# Altium footprint library SelfDrivingCar_PCB.PcbLib: 33 footprints (part 3 of 3)
Each footprint in its own frame and in the unit in brackets; x right, y up, seen from the top. Pads: shape width x height; smd on the part's side, far side on the other; paste and mask are expansions set on the pad; w line width, h text height; cw(c..) or ccw(c..) is an arc to the next point about the centre after c.
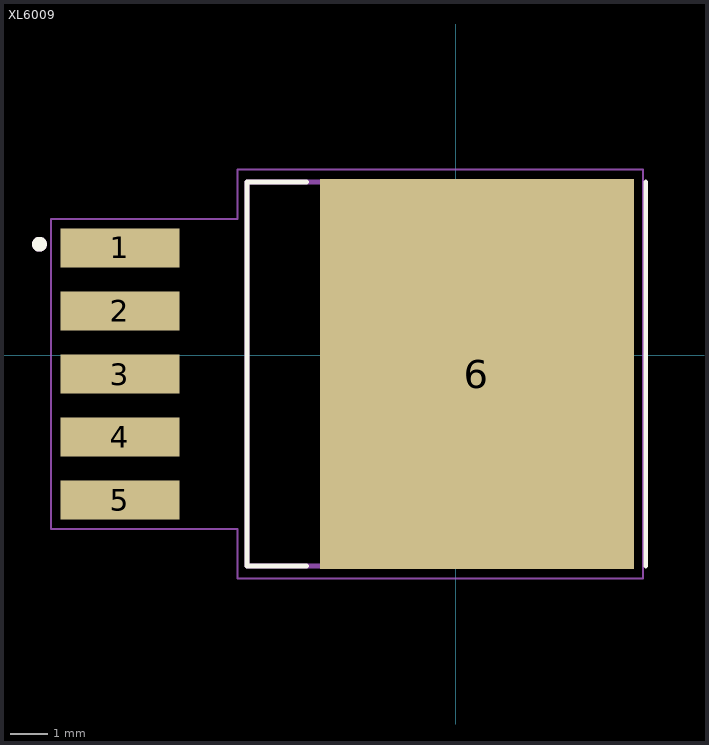
[diagram p2: the footprint, top view; thin cyan lines are the x and y axes]

## XL6009 [mm]
pads (6):
  rect 3.21x1.05 smd: 1(-9.051,2.892) 2(-9.051,1.192) 3(-9.051,-0.508) 4(-9.051,-2.208) 5(-9.051,-3.908)
  rect 8.46x10.53 smd paste-6: 6(0.579,-0.508)
Top Overlay:
  circle w0.2: c-11.221,2.992 r0.1
  lines w0.127: -4.021,-5.688 -5.626,-5.688 -5.626,4.672 -4.021,4.672 ; 5.129,-5.688 5.129,4.672
Top Paste:
  region: 2.269,-1.218 1.009,-1.218 1.009,0.202 2.269,0.202
  region: 4.389,-1.218 3.129,-1.218 3.129,0.202 4.389,0.202
  region: 0.149,-1.218 -1.111,-1.218 -1.111,0.202 0.149,0.202
  region: -1.971,-1.218 -3.231,-1.218 -3.231,0.202 -1.971,0.202
  region: 2.269,0.892 1.009,0.892 1.009,2.312 2.269,2.312
  region: 2.269,3.002 1.009,3.002 1.009,4.422 2.269,4.422
  region: 2.269,-3.328 1.009,-3.328 1.009,-1.908 2.269,-1.908
  region: 2.269,-5.438 1.009,-5.438 1.009,-4.018 2.269,-4.018
  region: 4.389,0.892 3.129,0.892 3.129,2.312 4.389,2.312
  region: 4.389,3.002 3.129,3.002 3.129,4.422 4.389,4.422
  region: 4.389,-3.328 3.129,-3.328 3.129,-1.908 4.389,-1.908
  region: 4.389,-5.438 3.129,-5.438 3.129,-4.018 4.389,-4.018
  region: 0.149,-3.328 -1.111,-3.328 -1.111,-1.908 0.149,-1.908
  region: 0.149,-5.438 -1.111,-5.438 -1.111,-4.018 0.149,-4.018
  region: 0.149,0.892 -1.111,0.892 -1.111,2.312 0.149,2.312
  region: -1.971,0.892 -3.231,0.892 -3.231,2.312 -1.971,2.312
  region: -1.971,3.002 -3.231,3.002 -3.231,4.422 -1.971,4.422
  region: 0.149,3.002 -1.111,3.002 -1.111,4.422 0.149,4.422
  region: -1.971,-3.328 -3.231,-3.328 -3.231,-1.908 -1.971,-1.908
  region: -1.971,-5.438 -3.231,-5.438 -3.231,-4.018 -1.971,-4.018
Mechanical 13:
  circle w0.2: c-11.221,2.992 r0.1
  lines w0.127: -5.626,-5.688 -5.626,4.672 3.274,4.672 3.274,-5.688 -5.626,-5.688
Mechanical 15:
  lines w0.05: -10.911,-4.688 -10.911,3.672 -5.881,3.672 -5.881,5.012 5.059,5.012 5.059,-6.028 -5.881,-6.028 -5.881,-4.688 -10.911,-4.688
3D body "step_temp.STEP": height 4.65, standoff 0, extent -10.096,-5.588 4.254,4.572